# Altium schematic symbol library LDO_3terminal.SchLib: 1 symbol
Pins are listed as number, name and electrical type; pins without a type are passive.

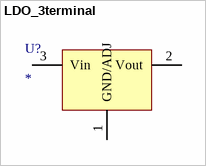
[diagram p0: symbol LDO_3terminal]

## LDO_3terminal
designator U?
Value: *
pins: 1 GND/ADJ, 2 Vout (power), 3 Vin (power)